# Altium schematic symbol library TY-311P.SchLib: 1 symbol
Pins are listed as number, name and electrical type; pins without a type are passive.

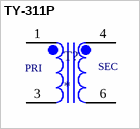
[diagram p0: symbol TY-311P]

## TY-311P
designator T?
Audio Transformer Â¦0.5dB 1dB Through Hole; MF: {'manufacturer': u'Triad Magnetics'}; MP: TY-311P; Price: None; Availability: Unavailable; Value: *; Package: None
footprint XFMR_TY-311P
pins: 1, 3, 4, 6
text: PRI; SEC